# Altium footprint library Dual-In-Line Package.PcbLib: 149 footprints (part 9 of 10)
Each footprint in its own frame and in the unit in brackets; x right, y up, seen from the top. Pads: shape width x height; smd on the part's side, far side on the other; paste and mask are expansions set on the pad; w line width, h text height; cw(c..) or ccw(c..) is an arc to the next point about the centre after c.
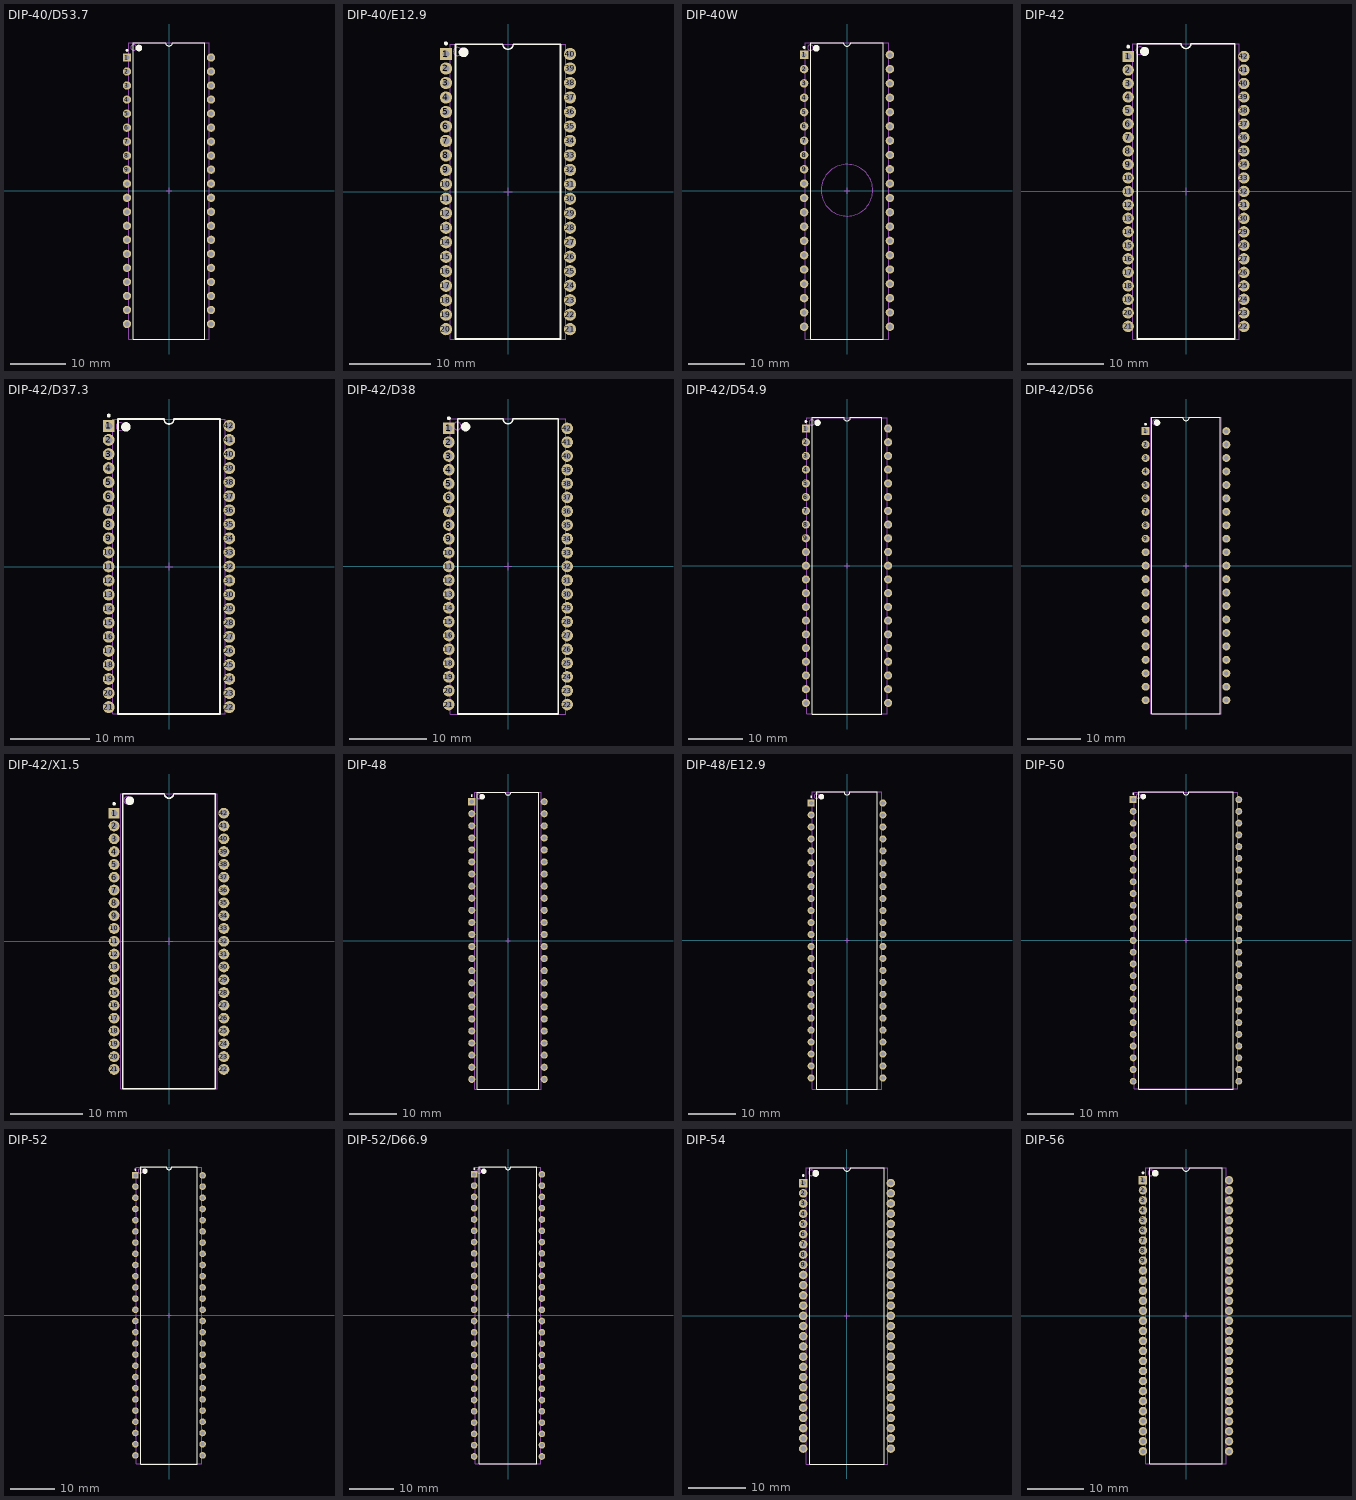
[diagram p8: the footprints below, top view; thin cyan lines are the x and y axes]

## DIP-40/D53.7 [mm] "DIP, 40-Pin, Row Spacing 15.24 mm, Pitch 2.54 mm"
height 6.35
pads (40):
  rect 1.5x1.5 hole 0.9: 1(-7.62,24.13)
  round 1.5 hole 0.9: 2(-7.62,21.59) 3(-7.62,19.05) 4(-7.62,16.51) 5(-7.62,13.97) 6(-7.62,11.43) 7(-7.62,8.89) 8(-7.62,6.35) 9(-7.62,3.81) 10(-7.62,1.27) 11(-7.62,-1.27) 12(-7.62,-3.81) 13(-7.62,-6.35) 14(-7.62,-8.89) 15(-7.62,-11.43) 16(-7.62,-13.97) 17(-7.62,-16.51) 18(-7.62,-19.05) 19(-7.62,-21.59) 20(-7.62,-24.13) 21(7.62,-24.13) 22(7.62,-21.59) 23(7.62,-19.05) 24(7.62,-16.51) 25(7.62,-13.97) 26(7.62,-11.43) 27(7.62,-8.89) 28(7.62,-6.35) 29(7.62,-3.81) 30(7.62,-1.27) 31(7.62,1.27) 32(7.62,3.81) 33(7.62,6.35) 34(7.62,8.89) 35(7.62,11.43) 36(7.62,13.97) 37(7.62,16.51) 38(7.62,19.05) 39(7.62,21.59) 40(7.62,24.13)
Top Overlay:
  circle w0.25: c-7.62,25.43 r0.125
  circle w0.6: c-5.45,25.85 r0.3
  lines w0.2: -6.45,-26.85 -6.45,26.85 -0.635,26.85 ccw(c0,26.85) 0.635,26.85 6.45,26.85 6.45,-26.85 -6.45,-26.85
Mechanical 13:
  circle w0.1: c-6.4,25.95 r0.5
  lines w0.1: -7.3,-26.85 -7.3,26.85 7.3,26.85 7.3,-26.85 -7.3,-26.85
Mechanical 15:
  lines w0.1: -0.5,0 0.5,0 ; 0,-0.5 0,0.5
3D body: height 5.7, standoff -2.58, extent -7.79,-26.25 7.7,26.2

## DIP-40/E12.9 [mm] "DIP, Ceramic Side-Brazed, 40-Pin, Row Spacing 15.24 mm, Pitch 1.778 mm"
height 3.67
pads (40):
  rect 1.5x1.5 hole 0.9: 1(-7.62,16.891)
  round 1.5 hole 0.9: 2(-7.62,15.113) 3(-7.62,13.335) 4(-7.62,11.557) 5(-7.62,9.779) 6(-7.62,8.001) 7(-7.62,6.223) 8(-7.62,4.445) 9(-7.62,2.667) 10(-7.62,0.889) 11(-7.62,-0.889) 12(-7.62,-2.667) 13(-7.62,-4.445) 14(-7.62,-6.223) 15(-7.62,-8.001) 16(-7.62,-9.779) 17(-7.62,-11.557) 18(-7.62,-13.335) 19(-7.62,-15.113) 20(-7.62,-16.891) 21(7.62,-16.891) 22(7.62,-15.113) 23(7.62,-13.335) 24(7.62,-11.557) 25(7.62,-9.779) 26(7.62,-8.001) 27(7.62,-6.223) 28(7.62,-4.445) 29(7.62,-2.667) 30(7.62,-0.889) 31(7.62,0.889) 32(7.62,2.667) 33(7.62,4.445) 34(7.62,6.223) 35(7.62,8.001) 36(7.62,9.779) 37(7.62,11.557) 38(7.62,13.335) 39(7.62,15.113) 40(7.62,16.891)
Top Overlay:
  circle w0.6: c-5.45,17.1 r0.3
  circle w0.25: c-7.62,18.191 r0.125
  lines w0.2: -6.45,-18.1 6.45,-18.1 6.45,18.1 0.635,18.1 cw(c0,18.1) -0.635,18.1 -6.45,18.1 -6.45,-18.1
Mechanical 13:
  circle w0.1: c-6.2,17.2 r0.5
  lines w0.1: -7.1,-18.1 7.1,-18.1 7.1,18.1 -7.1,18.1 -7.1,-18.1
Mechanical 15:
  lines w0.1: -0.5,0 0.5,0 ; 0,-0.5 0,0.5

## DIP-40W [mm] "DIP, 40-Leads, Row Spacing 15.24mm, Pitch 2.54mm, Body 52.1x13.9mm, Window"
height 5.715
pads (40):
  rect 1.5x1.5 hole 0.9: 1(-7.62,24.13)
  round 1.5 hole 0.9: 2(-7.62,21.59) 3(-7.62,19.05) 4(-7.62,16.51) 5(-7.62,13.97) 6(-7.62,11.43) 7(-7.62,8.89) 8(-7.62,6.35) 9(-7.62,3.81) 10(-7.62,1.27) 11(-7.62,-1.27) 12(-7.62,-3.81) 13(-7.62,-6.35) 14(-7.62,-8.89) 15(-7.62,-11.43) 16(-7.62,-13.97) 17(-7.62,-16.51) 18(-7.62,-19.05) 19(-7.62,-21.59) 20(-7.62,-24.13) 21(7.62,-24.13) 22(7.62,-21.59) 23(7.62,-19.05) 24(7.62,-16.51) 25(7.62,-13.97) 26(7.62,-11.43) 27(7.62,-8.89) 28(7.62,-6.35) 29(7.62,-3.81) 30(7.62,-1.27) 31(7.62,1.27) 32(7.62,3.81) 33(7.62,6.35) 34(7.62,8.89) 35(7.62,11.43) 36(7.62,13.97) 37(7.62,16.51) 38(7.62,19.05) 39(7.62,21.59) 40(7.62,24.13)
Top Overlay:
  circle w0.6: c-5.45,25.3 r0.3
  circle w0.25: c-7.62,25.43 r0.125
  lines w0.2: -6.45,-26.3 6.45,-26.3 6.45,26.3 0.635,26.3 cw(c0,26.3) -0.635,26.3 -6.45,26.3 -6.45,-26.3
Mechanical 13:
  circle w0.1: c-6.5,25.4 r0.5
  circle w0.1: c0,0.1 r4.575
  lines w0.1: -7.4,-26.3 7.4,-26.3 7.4,26.3 -7.4,26.3 -7.4,-26.3
Mechanical 15:
  lines w0.1: -0.5,0 0.5,0 ; 0,-0.5 0,0.5
3D body: height 5.7, standoff -2.58, extent -7.745,-26.225 7.745,26.225

## DIP-42 [mm] "DIP, 42-Pin, Row Spacing 15.24 mm, Pitch 1.778 mm"
height 5.1
pads (42):
  rect 1.5x1.5 hole 0.9: 1(-7.62,17.78)
  round 1.5 hole 0.9: 2(-7.62,16.002) 3(-7.62,14.224) 4(-7.62,12.446) 5(-7.62,10.668) 6(-7.62,8.89) 7(-7.62,7.112) 8(-7.62,5.334) 9(-7.62,3.556) 10(-7.62,1.778) 11(-7.62,0) 12(-7.62,-1.778) 13(-7.62,-3.556) 14(-7.62,-5.334) 15(-7.62,-7.112) 16(-7.62,-8.89) 17(-7.62,-10.668) 18(-7.62,-12.446) 19(-7.62,-14.224) 20(-7.62,-16.002) 21(-7.62,-17.78) 22(7.62,-17.78) 23(7.62,-16.002) 24(7.62,-14.224) 25(7.62,-12.446) 26(7.62,-10.668) 27(7.62,-8.89) 28(7.62,-7.112) 29(7.62,-5.334) 30(7.62,-3.556) 31(7.62,-1.778) 32(7.62,0) 33(7.62,1.778) 34(7.62,3.556) 35(7.62,5.334) 36(7.62,7.112) 37(7.62,8.89) 38(7.62,10.668) 39(7.62,12.446) 40(7.62,14.224) 41(7.62,16.002) 42(7.62,17.78)
Top Overlay:
  circle w0.6: c-5.45,18.45 r0.3
  circle w0.25: c-7.62,19.08 r0.125
  lines w0.2: -6.45,-19.45 6.45,-19.45 6.45,19.45 0.635,19.45 cw(c0,19.45) -0.635,19.45 -6.45,19.45 -6.45,-19.45
Mechanical 13:
  circle w0.1: c-6.1,18.55 r0.5
  lines w0.1: -7,-19.45 7,-19.45 7,19.45 -7,19.45 -7,-19.45
Mechanical 15:
  lines w0.1: -0.5,0 0.5,0 ; 0,-0.5 0,0.5

## DIP-42/D37.3 [mm] "DIP, Plastic Shrink, 42-Pin, Row Spacing 15.24 mm, Pitch 1.778 mm"
height 5.08
pads (42):
  rect 1.5x1.5 hole 0.9: 1(-7.62,17.78)
  round 1.5 hole 0.9: 2(-7.62,16.002) 3(-7.62,14.224) 4(-7.62,12.446) 5(-7.62,10.668) 6(-7.62,8.89) 7(-7.62,7.112) 8(-7.62,5.334) 9(-7.62,3.556) 10(-7.62,1.778) 11(-7.62,0) 12(-7.62,-1.778) 13(-7.62,-3.556) 14(-7.62,-5.334) 15(-7.62,-7.112) 16(-7.62,-8.89) 17(-7.62,-10.668) 18(-7.62,-12.446) 19(-7.62,-14.224) 20(-7.62,-16.002) 21(-7.62,-17.78) 22(7.62,-17.78) 23(7.62,-16.002) 24(7.62,-14.224) 25(7.62,-12.446) 26(7.62,-10.668) 27(7.62,-8.89) 28(7.62,-7.112) 29(7.62,-5.334) 30(7.62,-3.556) 31(7.62,-1.778) 32(7.62,0) 33(7.62,1.778) 34(7.62,3.556) 35(7.62,5.334) 36(7.62,7.112) 37(7.62,8.89) 38(7.62,10.668) 39(7.62,12.446) 40(7.62,14.224) 41(7.62,16.002) 42(7.62,17.78)
Top Overlay:
  circle w0.25: c-7.62,19.08 r0.125
  circle w0.6: c-5.45,17.65 r0.3
  lines w0.2: -6.45,-18.65 -6.45,18.65 -0.635,18.65 ccw(c0,18.65) 0.635,18.65 6.45,18.65 6.45,-18.65 -6.45,-18.65
Mechanical 13:
  circle w0.1: c-6.2,17.7 r0.5
  lines w0.1: -7.1,-18.6 -7.1,18.6 7.1,18.6 7.1,-18.6 -7.1,-18.6
Mechanical 15:
  lines w0.1: -0.5,0 0.5,0 ; 0,-0.5 0,0.5

## DIP-42/D38 [mm] "DIP, Ceramic, Shrink, 42-Pin, Row Spacing 15.24 mm, Pitch 1.778 mm"
height 4.01
pads (42):
  rect 1.5x1.5 hole 0.9: 1(-7.62,17.78)
  round 1.5 hole 0.9: 2(-7.62,16.002) 3(-7.62,14.224) 4(-7.62,12.446) 5(-7.62,10.668) 6(-7.62,8.89) 7(-7.62,7.112) 8(-7.62,5.334) 9(-7.62,3.556) 10(-7.62,1.778) 11(-7.62,0) 12(-7.62,-1.778) 13(-7.62,-3.556) 14(-7.62,-5.334) 15(-7.62,-7.112) 16(-7.62,-8.89) 17(-7.62,-10.668) 18(-7.62,-12.446) 19(-7.62,-14.224) 20(-7.62,-16.002) 21(-7.62,-17.78) 22(7.62,-17.78) 23(7.62,-16.002) 24(7.62,-14.224) 25(7.62,-12.446) 26(7.62,-10.668) 27(7.62,-8.89) 28(7.62,-7.112) 29(7.62,-5.334) 30(7.62,-3.556) 31(7.62,-1.778) 32(7.62,0) 33(7.62,1.778) 34(7.62,3.556) 35(7.62,5.334) 36(7.62,7.112) 37(7.62,8.89) 38(7.62,10.668) 39(7.62,12.446) 40(7.62,14.224) 41(7.62,16.002) 42(7.62,17.78)
Top Overlay:
  circle w0.25: c-7.62,19.08 r0.125
  circle w0.6: c-5.45,18 r0.3
  lines w0.2: -6.45,-19 -6.45,19 -0.635,19 ccw(c0,19) 0.635,19 6.45,19 6.45,-19 -6.45,-19
Mechanical 13:
  circle w0.1: c-6.525,18.1 r0.5
  lines w0.1: -7.425,-19 -7.425,19 7.425,19 7.425,-19 -7.425,-19
Mechanical 15:
  lines w0.1: -0.5,0 0.5,0 ; 0,-0.5 0,0.5

## DIP-42/D54.9 [mm] "Ceramic Frit-seal DIP, Window, 42-Pin, Row Spacing 15.24 mm, Pitch 2.54 mm"
height 5.72
pads (42):
  rect 1.5x1.5 hole 0.9: 1(-7.62,25.4)
  round 1.5 hole 0.9: 2(-7.62,22.86) 3(-7.62,20.32) 4(-7.62,17.78) 5(-7.62,15.24) 6(-7.62,12.7) 7(-7.62,10.16) 8(-7.62,7.62) 9(-7.62,5.08) 10(-7.62,2.54) 11(-7.62,0) 12(-7.62,-2.54) 13(-7.62,-5.08) 14(-7.62,-7.62) 15(-7.62,-10.16) 16(-7.62,-12.7) 17(-7.62,-15.24) 18(-7.62,-17.78) 19(-7.62,-20.32) 20(-7.62,-22.86) 21(-7.62,-25.4) 22(7.62,-25.4) 23(7.62,-22.86) 24(7.62,-20.32) 25(7.62,-17.78) 26(7.62,-15.24) 27(7.62,-12.7) 28(7.62,-10.16) 29(7.62,-7.62) 30(7.62,-5.08) 31(7.62,-2.54) 32(7.62,0) 33(7.62,2.54) 34(7.62,5.08) 35(7.62,7.62) 36(7.62,10.16) 37(7.62,12.7) 38(7.62,15.24) 39(7.62,17.78) 40(7.62,20.32) 41(7.62,22.86) 42(7.62,25.4)
Top Overlay:
  circle w0.6: c-5.45,26.45 r0.3
  circle w0.25: c-7.62,26.7 r0.125
  lines w0.2: -6.45,-27.45 6.45,-27.45 6.45,27.45 0.635,27.45 cw(c0,27.45) -0.635,27.45 -6.45,27.45 -6.45,-27.45
Mechanical 13:
  circle w0.1: c-6.525,26.525 r0.5
  lines w0.1: -7.425,-27.425 7.425,-27.425 7.425,27.425 -7.425,27.425 -7.425,-27.425
Mechanical 15:
  lines w0.1: -0.5,0 0.5,0 ; 0,-0.5 0,0.5

## DIP-42/D56 [mm] "DIP, 42-Pin, Row Spacing 15.24 mm, Pitch 2.54 mm"
height 5.72
pads (42):
  rect 1.5x1.5 hole 0.9: 1(-7.62,25.4)
  round 1.5 hole 0.9: 2(-7.62,22.86) 3(-7.62,20.32) 4(-7.62,17.78) 5(-7.62,15.24) 6(-7.62,12.7) 7(-7.62,10.16) 8(-7.62,7.62) 9(-7.62,5.08) 10(-7.62,2.54) 11(-7.62,0) 12(-7.62,-2.54) 13(-7.62,-5.08) 14(-7.62,-7.62) 15(-7.62,-10.16) 16(-7.62,-12.7) 17(-7.62,-15.24) 18(-7.62,-17.78) 19(-7.62,-20.32) 20(-7.62,-22.86) 21(-7.62,-25.4) 22(7.62,-25.4) 23(7.62,-22.86) 24(7.62,-20.32) 25(7.62,-17.78) 26(7.62,-15.24) 27(7.62,-12.7) 28(7.62,-10.16) 29(7.62,-7.62) 30(7.62,-5.08) 31(7.62,-2.54) 32(7.62,0) 33(7.62,2.54) 34(7.62,5.08) 35(7.62,7.62) 36(7.62,10.16) 37(7.62,12.7) 38(7.62,15.24) 39(7.62,17.78) 40(7.62,20.32) 41(7.62,22.86) 42(7.62,25.4)
Top Overlay:
  circle w0.25: c-7.62,26.7 r0.125
  circle w0.6: c-5.45,27 r0.3
  lines w0.2: -6.45,-28 -6.45,28 -0.635,28 ccw(c0,28) 0.635,28 6.45,28 6.45,-28 -6.45,-28
Mechanical 13:
  circle w0.1: c-5.775,27.1 r0.5
  lines w0.1: -6.675,-28 -6.675,28 6.675,28 6.675,-28 -6.675,-28
Mechanical 15:
  lines w0.1: -0.5,0 0.5,0 ; 0,-0.5 0,0.5

## DIP-42/X1.5 [mm] "DIP, 42-Pin, Row Spacing 15.24 mm, Pitch 1.778 mm"
height 5.08
pads (42):
  rect 1.5x1.5 hole 0.9: 1(-7.62,17.78)
  round 1.5 hole 0.9: 2(-7.62,16.002) 3(-7.62,14.224) 4(-7.62,12.446) 5(-7.62,10.668) 6(-7.62,8.89) 7(-7.62,7.112) 8(-7.62,5.334) 9(-7.62,3.556) 10(-7.62,1.778) 11(-7.62,0) 12(-7.62,-1.778) 13(-7.62,-3.556) 14(-7.62,-5.334) 15(-7.62,-7.112) 16(-7.62,-8.89) 17(-7.62,-10.668) 18(-7.62,-12.446) 19(-7.62,-14.224) 20(-7.62,-16.002) 21(-7.62,-17.78) 22(7.62,-17.78) 23(7.62,-16.002) 24(7.62,-14.224) 25(7.62,-12.446) 26(7.62,-10.668) 27(7.62,-8.89) 28(7.62,-7.112) 29(7.62,-5.334) 30(7.62,-3.556) 31(7.62,-1.778) 32(7.62,0) 33(7.62,1.778) 34(7.62,3.556) 35(7.62,5.334) 36(7.62,7.112) 37(7.62,8.89) 38(7.62,10.668) 39(7.62,12.446) 40(7.62,14.224) 41(7.62,16.002) 42(7.62,17.78)
Top Overlay:
  circle w0.25: c-7.62,19.08 r0.125
  circle w0.6: c-5.45,19.5 r0.3
  lines w0.2: -6.45,-20.5 -6.45,20.5 -0.635,20.5 ccw(c0,20.5) 0.635,20.5 6.45,20.5 6.45,-20.5 -6.45,-20.5
Mechanical 13:
  circle w0.1: c-5.775,19.575 r0.5
  lines w0.1: -6.675,-20.475 -6.675,20.475 6.675,20.475 6.675,-20.475 -6.675,-20.475
Mechanical 15:
  lines w0.1: -0.5,0 0.5,0 ; 0,-0.5 0,0.5

## DIP-48 [mm] "DIP, Molded, 48-Pin, Row Spacing 15.24 mm, Pitch 2.54 mm"
height 5.34
pads (48):
  rect 1.5x1.5 hole 0.9: 1(-7.62,29.21)
  round 1.5 hole 0.9: 2(-7.62,26.67) 3(-7.62,24.13) 4(-7.62,21.59) 5(-7.62,19.05) 6(-7.62,16.51) 7(-7.62,13.97) 8(-7.62,11.43) 9(-7.62,8.89) 10(-7.62,6.35) 11(-7.62,3.81) 12(-7.62,1.27) 13(-7.62,-1.27) 14(-7.62,-3.81) 15(-7.62,-6.35) 16(-7.62,-8.89) 17(-7.62,-11.43) 18(-7.62,-13.97) 19(-7.62,-16.51) 20(-7.62,-19.05) 21(-7.62,-21.59) 22(-7.62,-24.13) 23(-7.62,-26.67) 24(-7.62,-29.21) 25(7.62,-29.21) 26(7.62,-26.67) 27(7.62,-24.13) 28(7.62,-21.59) 29(7.62,-19.05) 30(7.62,-16.51) 31(7.62,-13.97) 32(7.62,-11.43) 33(7.62,-8.89) 34(7.62,-6.35) 35(7.62,-3.81) 36(7.62,-1.27) 37(7.62,1.27) 38(7.62,3.81) 39(7.62,6.35) 40(7.62,8.89) 41(7.62,11.43) 42(7.62,13.97) 43(7.62,16.51) 44(7.62,19.05) 45(7.62,21.59) 46(7.62,24.13) 47(7.62,26.67) 48(7.62,29.21)
Top Overlay:
  circle w0.6: c-5.45,30.25 r0.3
  circle w0.25: c-7.62,30.51 r0.125
  lines w0.2: -6.45,-31.25 6.45,-31.25 6.45,31.25 0.635,31.25 cw(c0,31.25) -0.635,31.25 -6.45,31.25 -6.45,-31.25
Mechanical 13:
  circle w0.1: c-6.075,30.35 r0.5
  lines w0.1: -6.975,-31.25 6.975,-31.25 6.975,31.25 -6.975,31.25 -6.975,-31.25
Mechanical 15:
  lines w0.1: -0.5,0 0.5,0 ; 0,-0.5 0,0.5

## DIP-48/E12.9 [mm] "DIP, Plastic, 48-Pin, Row Spacing 15.24 mm, Pitch 2.54 mm"
height 6.35
pads (48):
  rect 1.5x1.5 hole 0.9: 1(-7.62,29.21)
  round 1.5 hole 0.9: 2(-7.62,26.67) 3(-7.62,24.13) 4(-7.62,21.59) 5(-7.62,19.05) 6(-7.62,16.51) 7(-7.62,13.97) 8(-7.62,11.43) 9(-7.62,8.89) 10(-7.62,6.35) 11(-7.62,3.81) 12(-7.62,1.27) 13(-7.62,-1.27) 14(-7.62,-3.81) 15(-7.62,-6.35) 16(-7.62,-8.89) 17(-7.62,-11.43) 18(-7.62,-13.97) 19(-7.62,-16.51) 20(-7.62,-19.05) 21(-7.62,-21.59) 22(-7.62,-24.13) 23(-7.62,-26.67) 24(-7.62,-29.21) 25(7.62,-29.21) 26(7.62,-26.67) 27(7.62,-24.13) 28(7.62,-21.59) 29(7.62,-19.05) 30(7.62,-16.51) 31(7.62,-13.97) 32(7.62,-11.43) 33(7.62,-8.89) 34(7.62,-6.35) 35(7.62,-3.81) 36(7.62,-1.27) 37(7.62,1.27) 38(7.62,3.81) 39(7.62,6.35) 40(7.62,8.89) 41(7.62,11.43) 42(7.62,13.97) 43(7.62,16.51) 44(7.62,19.05) 45(7.62,21.59) 46(7.62,24.13) 47(7.62,26.67) 48(7.62,29.21)
Top Overlay:
  circle w0.25: c-7.62,30.51 r0.125
  circle w0.6: c-5.45,30.55 r0.3
  lines w0.2: -6.45,-31.55 -6.45,31.55 -0.635,31.55 ccw(c0,31.55) 0.635,31.55 6.45,31.55 6.45,-31.55 -6.45,-31.55
Mechanical 13:
  circle w0.1: c-6.475,30.65 r0.5
  lines w0.1: -7.375,-31.55 -7.375,31.55 7.375,31.55 7.375,-31.55 -7.375,-31.55
Mechanical 15:
  lines w0.1: -0.5,0 0.5,0 ; 0,-0.5 0,0.5

## DIP-50 [mm] "DIP, Ceramic, 50-Pin, Row Spacing 22.86 mm, Pitch 2.54 mm"
height 5.08
pads (50):
  rect 1.5x1.5 hole 0.9: 1(-11.43,30.48)
  round 1.5 hole 0.9: 2(-11.43,27.94) 3(-11.43,25.4) 4(-11.43,22.86) 5(-11.43,20.32) 6(-11.43,17.78) 7(-11.43,15.24) 8(-11.43,12.7) 9(-11.43,10.16) 10(-11.43,7.62) 11(-11.43,5.08) 12(-11.43,2.54) 13(-11.43,0) 14(-11.43,-2.54) 15(-11.43,-5.08) 16(-11.43,-7.62) 17(-11.43,-10.16) 18(-11.43,-12.7) 19(-11.43,-15.24) 20(-11.43,-17.78) 21(-11.43,-20.32) 22(-11.43,-22.86) 23(-11.43,-25.4) 24(-11.43,-27.94) 25(-11.43,-30.48) 26(11.43,-30.48) 27(11.43,-27.94) 28(11.43,-25.4) 29(11.43,-22.86) 30(11.43,-20.32) 31(11.43,-17.78) 32(11.43,-15.24) 33(11.43,-12.7) 34(11.43,-10.16) 35(11.43,-7.62) 36(11.43,-5.08) 37(11.43,-2.54) 38(11.43,0) 39(11.43,2.54) 40(11.43,5.08) 41(11.43,7.62) 42(11.43,10.16) 43(11.43,12.7) 44(11.43,15.24) 45(11.43,17.78) 46(11.43,20.32) 47(11.43,22.86) 48(11.43,25.4) 49(11.43,27.94) 50(11.43,30.48)
Top Overlay:
  circle w0.25: c-11.43,31.78 r0.125
  circle w0.6: c-9.25,31.15 r0.3
  lines w0.2: -10.25,-32.15 -10.25,32.15 -0.635,32.15 ccw(c0,32.15) 0.635,32.15 10.25,32.15 10.25,-32.15 -10.25,-32.15
Mechanical 13:
  circle w0.1: c-10.3,31.225 r0.5
  lines w0.1: -11.2,-32.125 -11.2,32.125 11.2,32.125 11.2,-32.125 -11.2,-32.125
Mechanical 15:
  lines w0.1: -0.5,0 0.5,0 ; 0,-0.5 0,0.5

## DIP-52 [mm] "DIP, Ceramic, 52-Pin, Row Spacing 15.24 mm, Pitch 2.54 mm"
height 4.45
pads (52):
  rect 1.5x1.5 hole 0.9: 1(-7.62,31.75)
  round 1.5 hole 0.9: 2(-7.62,29.21) 3(-7.62,26.67) 4(-7.62,24.13) 5(-7.62,21.59) 6(-7.62,19.05) 7(-7.62,16.51) 8(-7.62,13.97) 9(-7.62,11.43) 10(-7.62,8.89) 11(-7.62,6.35) 12(-7.62,3.81) 13(-7.62,1.27) 14(-7.62,-1.27) 15(-7.62,-3.81) 16(-7.62,-6.35) 17(-7.62,-8.89) 18(-7.62,-11.43) 19(-7.62,-13.97) 20(-7.62,-16.51) 21(-7.62,-19.05) 22(-7.62,-21.59) 23(-7.62,-24.13) 24(-7.62,-26.67) 25(-7.62,-29.21) 26(-7.62,-31.75) 27(7.62,-31.75) 28(7.62,-29.21) 29(7.62,-26.67) 30(7.62,-24.13) 31(7.62,-21.59) 32(7.62,-19.05) 33(7.62,-16.51) 34(7.62,-13.97) 35(7.62,-11.43) 36(7.62,-8.89) 37(7.62,-6.35) 38(7.62,-3.81) 39(7.62,-1.27) 40(7.62,1.27) 41(7.62,3.81) 42(7.62,6.35) 43(7.62,8.89) 44(7.62,11.43) 45(7.62,13.97) 46(7.62,16.51) 47(7.62,19.05) 48(7.62,21.59) 49(7.62,24.13) 50(7.62,26.67) 51(7.62,29.21) 52(7.62,31.75)
Top Overlay:
  circle w0.25: c-7.62,33.05 r0.125
  circle w0.6: c-5.45,32.7 r0.3
  lines w0.2: -6.45,-33.7 -6.45,33.7 -0.635,33.7 ccw(c0,33.7) 0.635,33.7 6.45,33.7 6.45,-33.7 -6.45,-33.7
Mechanical 13:
  circle w0.1: c-6.525,32.75 r0.5
  lines w0.1: -7.425,-33.65 -7.425,33.65 7.425,33.65 7.425,-33.65 -7.425,-33.65
Mechanical 15:
  lines w0.1: -0.5,0 0.5,0 ; 0,-0.5 0,0.5

## DIP-52/D66.9 [mm] "DIP, Ceramic, 52-Pin, Row Spacing 15.24 mm, Pitch 2.54 mm"
height 5.08
pads (52):
  rect 1.5x1.5 hole 0.9: 1(-7.62,31.75)
  round 1.5 hole 0.9: 2(-7.62,29.21) 3(-7.62,26.67) 4(-7.62,24.13) 5(-7.62,21.59) 6(-7.62,19.05) 7(-7.62,16.51) 8(-7.62,13.97) 9(-7.62,11.43) 10(-7.62,8.89) 11(-7.62,6.35) 12(-7.62,3.81) 13(-7.62,1.27) 14(-7.62,-1.27) 15(-7.62,-3.81) 16(-7.62,-6.35) 17(-7.62,-8.89) 18(-7.62,-11.43) 19(-7.62,-13.97) 20(-7.62,-16.51) 21(-7.62,-19.05) 22(-7.62,-21.59) 23(-7.62,-24.13) 24(-7.62,-26.67) 25(-7.62,-29.21) 26(-7.62,-31.75) 27(7.62,-31.75) 28(7.62,-29.21) 29(7.62,-26.67) 30(7.62,-24.13) 31(7.62,-21.59) 32(7.62,-19.05) 33(7.62,-16.51) 34(7.62,-13.97) 35(7.62,-11.43) 36(7.62,-8.89) 37(7.62,-6.35) 38(7.62,-3.81) 39(7.62,-1.27) 40(7.62,1.27) 41(7.62,3.81) 42(7.62,6.35) 43(7.62,8.89) 44(7.62,11.43) 45(7.62,13.97) 46(7.62,16.51) 47(7.62,19.05) 48(7.62,21.59) 49(7.62,24.13) 50(7.62,26.67) 51(7.62,29.21) 52(7.62,31.75)
Top Overlay:
  circle w0.25: c-7.62,33.05 r0.125
  circle w0.6: c-5.45,32.45 r0.3
  lines w0.2: -6.45,-33.45 -6.45,33.45 -0.635,33.45 ccw(c0,33.45) 0.635,33.45 6.45,33.45 6.45,-33.45 -6.45,-33.45
Mechanical 13:
  circle w0.1: c-6.5,32.5 r0.5
  lines w0.1: -7.4,-33.4 -7.4,33.4 7.4,33.4 7.4,-33.4 -7.4,-33.4
Mechanical 15:
  lines w0.1: -0.5,0 0.5,0 ; 0,-0.5 0,0.5

## DIP-54 [mm] "DIP, Plastic Shrink, 54-Pin, Row Spacing 15.24 mm, Pitch 1.778 mm"
height 5.08
pads (54):
  rect 1.5x1.5 hole 0.9: 1(-7.62,23.114)
  round 1.5 hole 0.9: 2(-7.62,21.336) 3(-7.62,19.558) 4(-7.62,17.78) 5(-7.62,16.002) 6(-7.62,14.224) 7(-7.62,12.446) 8(-7.62,10.668) 9(-7.62,8.89) 10(-7.62,7.112) 11(-7.62,5.334) 12(-7.62,3.556) 13(-7.62,1.778) 14(-7.62,0) 15(-7.62,-1.778) 16(-7.62,-3.556) 17(-7.62,-5.334) 18(-7.62,-7.112) 19(-7.62,-8.89) 20(-7.62,-10.668) 21(-7.62,-12.446) 22(-7.62,-14.224) 23(-7.62,-16.002) 24(-7.62,-17.78) 25(-7.62,-19.558) 26(-7.62,-21.336) 27(-7.62,-23.114) 28(7.62,-23.114) 29(7.62,-21.336) 30(7.62,-19.558) 31(7.62,-17.78) 32(7.62,-16.002) 33(7.62,-14.224) 34(7.62,-12.446) 35(7.62,-10.668) 36(7.62,-8.89) 37(7.62,-7.112) 38(7.62,-5.334) 39(7.62,-3.556) 40(7.62,-1.778) 41(7.62,0) 42(7.62,1.778) 43(7.62,3.556) 44(7.62,5.334) 45(7.62,7.112) 46(7.62,8.89) 47(7.62,10.668) 48(7.62,12.446) 49(7.62,14.224) 50(7.62,16.002) 51(7.62,17.78) 52(7.62,19.558) 53(7.62,21.336) 54(7.62,23.114)
Top Overlay:
  circle w0.25: c-7.62,24.414 r0.125
  circle w0.6: c-5.45,24.8 r0.3
  lines w0.2: -6.45,-25.8 -6.45,25.8 -0.635,25.8 ccw(c0,25.8) 0.635,25.8 6.45,25.8 6.45,-25.8 -6.45,-25.8
Mechanical 13:
  circle w0.1: c-6.2,24.9 r0.5
  lines w0.1: -7.1,-25.8 -7.1,25.8 7.1,25.8 7.1,-25.8 -7.1,-25.8
Mechanical 15:
  lines w0.1: -0.5,0 0.5,0 ; 0,-0.5 0,0.5

## DIP-56 [mm] "DIP, 56-Pin, Row Spacing 15.24 mm, Pitch 1.778 mm"
height 5.08
pads (56):
  rect 1.5x1.5 hole 0.9: 1(-7.62,24.003)
  round 1.5 hole 0.9: 2(-7.62,22.225) 3(-7.62,20.447) 4(-7.62,18.669) 5(-7.62,16.891) 6(-7.62,15.113) 7(-7.62,13.335) 8(-7.62,11.557) 9(-7.62,9.779) 10(-7.62,8.001) 11(-7.62,6.223) 12(-7.62,4.445) 13(-7.62,2.667) 14(-7.62,0.889) 15(-7.62,-0.889) 16(-7.62,-2.667) 17(-7.62,-4.445) 18(-7.62,-6.223) 19(-7.62,-8.001) 20(-7.62,-9.779) 21(-7.62,-11.557) 22(-7.62,-13.335) 23(-7.62,-15.113) 24(-7.62,-16.891) 25(-7.62,-18.669) 26(-7.62,-20.447) 27(-7.62,-22.225) 28(-7.62,-24.003) 29(7.62,-24.003) 30(7.62,-22.225) 31(7.62,-20.447) 32(7.62,-18.669) 33(7.62,-16.891) 34(7.62,-15.113) 35(7.62,-13.335) 36(7.62,-11.557) 37(7.62,-9.779) 38(7.62,-8.001) 39(7.62,-6.223) 40(7.62,-4.445) 41(7.62,-2.667) 42(7.62,-0.889) 43(7.62,0.889) 44(7.62,2.667) 45(7.62,4.445) 46(7.62,6.223) 47(7.62,8.001) 48(7.62,9.779) 49(7.62,11.557) 50(7.62,13.335) 51(7.62,15.113) 52(7.62,16.891) 53(7.62,18.669) 54(7.62,20.447) 55(7.62,22.225) 56(7.62,24.003)
Top Overlay:
  circle w0.25: c-7.62,25.303 r0.125
  circle w0.6: c-5.45,25.25 r0.3
  lines w0.2: -6.45,-26.25 -6.45,26.25 -0.635,26.25 ccw(c0,26.25) 0.635,26.25 6.45,26.25 6.45,-26.25 -6.45,-26.25
Mechanical 13:
  circle w0.1: c-6.2,25.325 r0.5
  lines w0.1: -7.1,-26.225 -7.1,26.225 7.1,26.225 7.1,-26.225 -7.1,-26.225
Mechanical 15:
  lines w0.1: -0.5,0 0.5,0 ; 0,-0.5 0,0.5